# Altium integrated library Micron Memory Parallel NOR Flash.IntLib: 720 symbols (part 87 of 216)
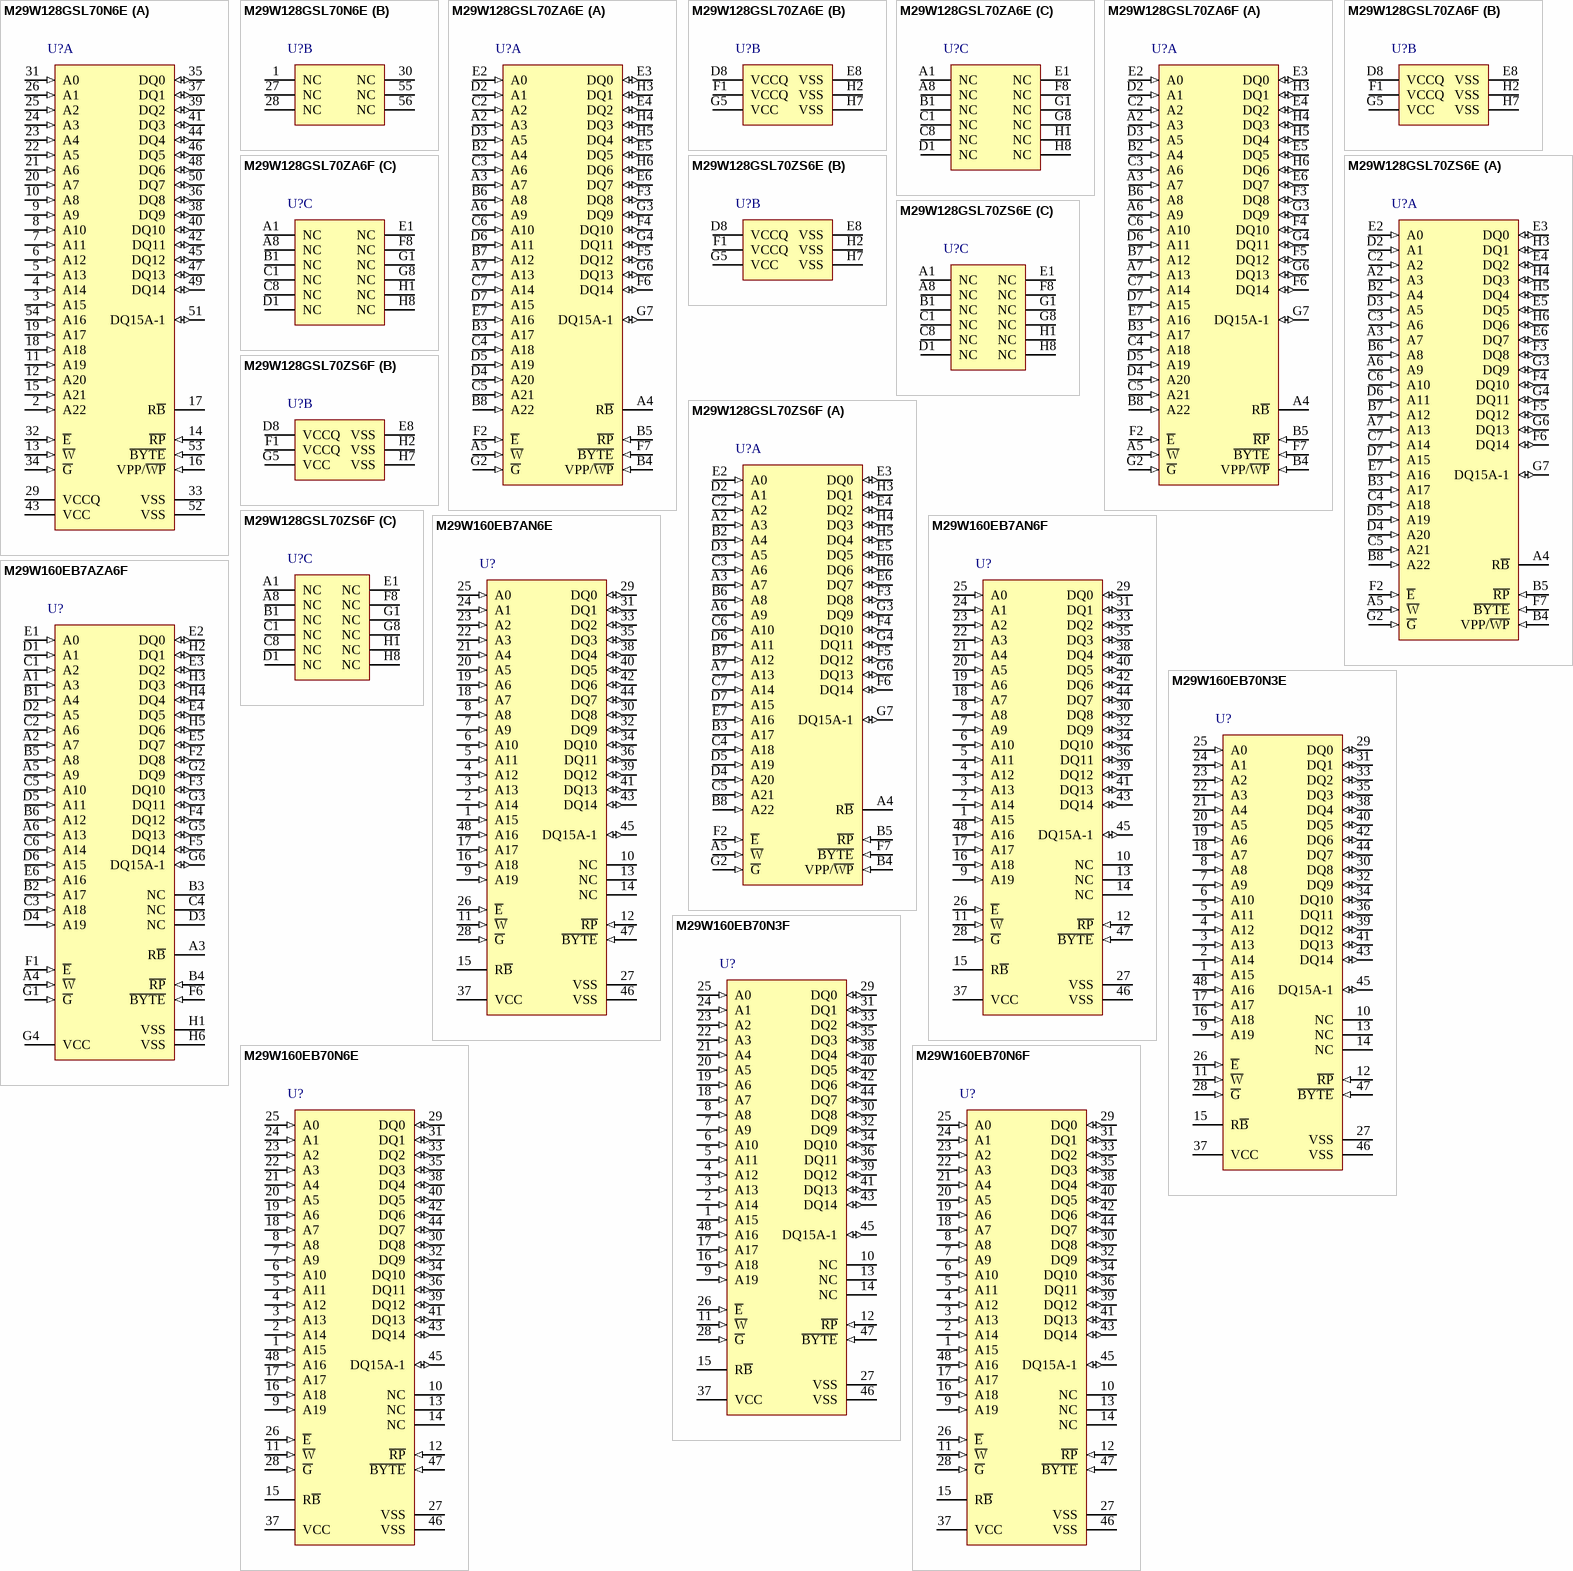
[diagram p130: symbols M29W128GSL70N6E to M29W160EB70N6F]

## M29W128GSL70ZS6E
designator U?
128 Mb (x8/x16) Parallel NOR Flash Memory, 70 ns, 2.7 to 3.6 V, 64-ball FBGA (ZS), Tray; Part Family: M29W; Manufacturer: Micron; PartNumber: M29W128GSL70ZS6E; Density: 128Mb; Op Temp: -40C to +85C; Speed: 70ns; Voltage: 2.7V-3.6V; DatasheetVersion: Rev. 11; PackageVersion: Rev. 11; PackageReference: MICT-ZS-64; PackageDescription: 64-Ball FBGA, 11 X 13 mm, Pitch 1 mm; RoHS: Yes; Width: x8/x16; Mounting Technology: Surface Mount; ComponentLink1Description: Manufacturer URL; ComponentLink1URL: http://www.micron.com/; ComponentLink2Description: Datasheet; ComponentLink2URL: http://www.micron.com/~/media/Documents/Products/Data%20Sheet/NOR%20Flash/Parallel/M29W/M29W128G.pdf; ComponentLink3Description: Package Specification; ComponentLink3URL: http://www.micron.com/~/media/Documents/Products/Data%20Sheet/NOR%20Flash/Parallel/P33/208034_P33_65nm_SBC_64M_128M_Discrete_DS.pdf
footprint MICT-ZS-64 (BGA, 64-Balls, Body 13x11mm, Pitch 1mm)
part A pins: A2 A3 (in) "Address input: The Address Input select the cells in the memory array to access during bus read operations. During bus write operations they control the commands sent to the command interface of the program/erase controller.", A3 A7 (in) "Address input: The Address Input select the cells in the memory array to access during bus read operations. During bus write operations they control the commands sent to the command interface of the program/erase controller.", A4 R~{B} (hiz) "Ready/busy output: The ready/busy pin is an open-drain output that can be used to identify when the device is performing a program or erase operation. During program or erase operations ready/busy is Low, VOL. Ready/busy is (See Datasheet)", A5 ~{W} (in) "Write enable: The write enable pin, W\, controls the bus write operation of the memory’s command interface.", A6 A9 (in) "Address input: The Address Input select the cells in the memory array to access during bus read operations. During bus write operations they control the commands sent to the command interface of the program/erase controller.", A7 A13 (in) "Address input: The Address Input select the cells in the memory array to access during bus read operations. During bus write operations they control the commands sent to the command interface of the program/erase controller.", B2 A4 (in) "Address input: The Address Input select the cells in the memory array to access during bus read operations. During bus write operations they control the commands sent to the command interface of the program/erase controller.", B3 A17 (in) "Address input: The Address Input select the cells in the memory array to access during bus read operations. During bus write operations they control the commands sent to the command interface of the program/erase controller.", B4 VPP/~{WP} (in) "VPP/write protect: The VPP/write protect pin provides two functions. The VPPH function allows the memory to use an external high voltage power supply to reduce the time required for program operations. This is achieved by (See Datasheet)", B5 ~{RP} (in) "Reset: The reset pin can be used to apply a hardware reset to the memory. A hardware reset is achieved by holding reset Low, VIL, for at least tPLPX. After reset goes High, VIH, the memory will be ready for bus read and bus (See Datasheet)", B6 A8 (in) "Address input: The Address Input select the cells in the memory array to access during bus read operations. During bus write operations they control the commands sent to the command interface of the program/erase controller.", B7 A12 (in) "Address input: The Address Input select the cells in the memory array to access during bus read operations. During bus write operations they control the commands sent to the command interface of the program/erase controller.", B8 A22 (in) "Address input: The Address Input select the cells in the memory array to access during bus read operations. During bus write operations they control the commands sent to the command interface of the program/erase controller.", C2 A2 (in) "Address input: The Address Input select the cells in the memory array to access during bus read operations. During bus write operations they control the commands sent to the command interface of the program/erase controller.", C3 A6 (in) "Address input: The Address Input select the cells in the memory array to access during bus read operations. During bus write operations they control the commands sent to the command interface of the program/erase controller.", C4 A18 (in) "Address input: The Address Input select the cells in the memory array to access during bus read operations. During bus write operations they control the commands sent to the command interface of the program/erase controller.", C5 A21 (in) "Address input: The Address Input select the cells in the memory array to access during bus read operations. During bus write operations they control the commands sent to the command interface of the program/erase controller.", C6 A10 (in) "Address input: The Address Input select the cells in the memory array to access during bus read operations. During bus write operations they control the commands sent to the command interface of the program/erase controller.", C7 A14 (in) "Address input: The Address Input select the cells in the memory array to access during bus read operations. During bus write operations they control the commands sent to the command interface of the program/erase controller.", D2 A1 (in) "Address Input: The Address Input select the cells in the memory array to access during bus read operations. During bus write operations they control the commands sent to the command interface of the program/erase controller.", D3 A5 (in) "Address input: The Address Input select the cells in the memory array to access during bus read operations. During bus write operations they control the commands sent to the command interface of the program/erase controller.", D4 A20 (in) "Address input: The Address Input select the cells in the memory array to access during bus read operations. During bus write operations they control the commands sent to the command interface of the program/erase controller.", D5 A19 (in) "Address input: The Address Input select the cells in the memory array to access during bus read operations. During bus write operations they control the commands sent to the command interface of the program/erase controller.", D6 A11 (in) "Address input: The Address Input select the cells in the memory array to access during bus read operations. During bus write operations they control the commands sent to the command interface of the program/erase controller.", D7 A15 (in) "Address input: The Address Input select the cells in the memory array to access during bus read operations. During bus write operations they control the commands sent to the command interface of the program/erase controller.", E2 A0 (in) "Address input: The Address Input select the cells in the memory array to access during bus read operations. During bus write operations they control the commands sent to the command interface of the program/erase controller.", E3 DQ0 (io) "Data input/output: The data I/O Output the data stored at the selected address during a bus read operation. During bus write operations they represent the commands sent to the command interface of the internal state machine.", E4 DQ2 (io) "Data input/output: The data I/O Output the data stored at the selected address during a bus read operation. During bus write operations they represent the commands sent to the command interface of the internal state machine.", E5 DQ5 (io) "Data input/output: The data I/O output the data stored at the selected address during a bus read operation. During bus write operations they represent the commands sent to the command interface of the internal state machine.", E6 DQ7 (io) "Data input/output: The data I/O output the data stored at the selected address during a bus read operation. During bus write operations they represent the commands sent to the command interface of the internal state machine.", E7 A16 (in) "Address input: The Address Input select the cells in the memory array to access during bus read operations. During bus write operations they control the commands sent to the command interface of the program/erase controller.", F2 ~{E} (in) "Chip enable: The chip enable pin, E\, activates the memory, allowing bus read and bus write operations to be performed. When chip enable is High, VIH, all other pins are ignored.", F3 DQ8 (io) "Data input/output: The data I/O output the data stored at the selected address during a bus read operation when B\Y\T\E\ is High, VIH. When B\Y\T\E\ is Low, VIL, these pins are not used and are high impedance. During bus (See Datasheet)", F4 DQ10 (io) "Data input/output: The data I/O output the data stored at the selected address during a bus read operation when B\Y\T\E\ is High, VIH. When B\Y\T\E\ is Low, VIL, these pins are not used and are high impedance. During bus (See Datasheet)", F5 DQ12 (io) "Data input/output: The data I/O output the data stored at the selected address during a bus read operation when B\Y\T\E\ is High, VIH. When B\Y\T\E\ is Low, VIL, these pins are not used and are high impedance. During bus (See Datasheet)", F6 DQ14 (io) "Data input/output: The data I/O output the data stored at the selected address during a bus read operation when B\Y\T\E\ is High, VIH. When B\Y\T\E\ is Low, VIL, these pins are not used and are high impedance. During bus (See Datasheet)", F7 ~{BYTE} (in) "B\y\t\e\/word organization select: It is used to switch between the x8 and x16 bus modes of the memory. When byte/word organization select is Low, VIL, the memory is in x8 mode, when it is High, VIH, the memory is in x16 (See Datasheet)", G2 ~{G} (in) "Output enable: The output enable pin, G\, controls the bus read operation of the memory.", G3 DQ9 (io) "Data input/output: The data I/O output the data stored at the selected address during a bus read operation when B\Y\T\E\ is High, VIH. When B\Y\T\E\ is Low, VIL, these pins are not used and are high impedance. During bus (See Datasheet)", G4 DQ11 (io) "Data input/output: The data I/O output the data stored at the selected address during a bus read operation when B\Y\T\E\ is High, VIH. When B\Y\T\E\ is Low, VIL, these pins are not used and are high impedance. During bus (See Datasheet)", G6 DQ13 (io) "Data input/output: The data I/O output the data stored at the selected address during a bus read operation when B\Y\T\E\ is High, VIH. When B\Y\T\E\ is Low, VIL, these pins are not used and are high impedance. During bus (See Datasheet)", G7 DQ15A-1 (io) "Data input/output or address input: When the device is in x 16 bus mode, this pin behaves as a data input/output pin (as DQ8- DQ14). When the device operates in x 8 bus mode, this pin behaves as the least significant bit of (See Datasheet)", H3 DQ1 (io) "Data input/output: The data I/O Output the data stored at the selected address during a bus read operation. During bus write operations they represent the commands sent to the command interface of the internal state machine.", H4 DQ3 (io) "Data input/output: The data I/O output the data stored at the selected address during a bus read operation. During bus write operations they represent the commands sent to the command interface of the internal state machine.", H5 DQ4 (io) "Data input/OUTPUT: The data I/O OUTPUT the data stored at the selected address during a bus read operation. During bus write operations they represent the commands sent to the command interface of the internal state machine.", H6 DQ6 (io) "Data input/output: The data I/O output the data stored at the selected address during a bus read operation. During bus write operations they represent the commands sent to the command interface of the internal state machine."
part B pins: D8 VCCQ (power) "VCCQ input/output supply voltage: VCCQ provides the power supply to the I/O pins and enables all outputs to be powered independently from VCC.", E8 VSS (power) "Vss ground: VSS is the reference for all voltage measurements. The device features two VSS pins both of which must be connected to the system ground.", F1 VCCQ (power) "VCCQ input/output supply voltage: VCCQ provides the power supply to the I/O pins and enables all outputs to be powered independently from VCC.", G5 VCC (power) "VCC supply voltage: VCC provides the power supply for all operations (read, program and erase). The command interface is disabled when the VCC supply voltage is less than the lockout voltage, VLKO. This prevents bus write (See Datasheet)", H2 VSS (power) "Vss ground: VSS is the reference for all voltage measurements. The device features two VSS pins both of which must be connected to the system ground.", H7 VSS (power) "Vss ground: VSS is the reference for all voltage measurements. The device features two VSS pins both of which must be connected to the system ground."
part C pins: A1 NC "Not connected.", A8 NC "Not connected.", B1 NC "Not connected.", C1 NC "Not connected.", C8 NC "Not connected.", D1 NC "Not connected.", E1 NC "Not connected.", F8 NC "Not connected.", G1 NC "Not connected.", G8 NC "Not connected.", H1 NC "Not connected.", H8 NC "Not connected."

## M29W128GSL70ZS6F
designator U?
128 Mb (x8/x16) Parallel NOR Flash Memory, 70 ns, 2.7 to 3.6 V, 64-ball FBGA (ZS), Tape & Reel; Part Family: M29W; Manufacturer: Micron; PartNumber: M29W128GSL70ZS6F; Density: 128Mb; Op Temp: -40C to +85C; Speed: 70ns; Voltage: 2.7V-3.6V; DatasheetVersion: Rev. 11; PackageVersion: Rev. 11; PackageReference: MICT-ZS-64; PackageDescription: 64-Ball FBGA, 11 X 13 mm, Pitch 1 mm; RoHS: Yes; Width: x8/x16; Mounting Technology: Surface Mount; ComponentLink1Description: Manufacturer URL; ComponentLink1URL: http://www.micron.com/; ComponentLink2Description: Datasheet; ComponentLink2URL: http://www.micron.com/~/media/Documents/Products/Data%20Sheet/NOR%20Flash/Parallel/M29W/M29W128G.pdf; ComponentLink3Description: Package Specification; ComponentLink3URL: http://www.micron.com/~/media/Documents/Products/Data%20Sheet/NOR%20Flash/Parallel/P33/208034_P33_65nm_SBC_64M_128M_Discrete_DS.pdf
footprint MICT-ZS-64 (BGA, 64-Balls, Body 13x11mm, Pitch 1mm)
part A pins: A2 A3 (in) "Address input: The Address Input select the cells in the memory array to access during bus read operations. During bus write operations they control the commands sent to the command interface of the program/erase controller.", A3 A7 (in) "Address input: The Address Input select the cells in the memory array to access during bus read operations. During bus write operations they control the commands sent to the command interface of the program/erase controller.", A4 R~{B} (hiz) "Ready/busy output: The ready/busy pin is an open-drain output that can be used to identify when the device is performing a program or erase operation. During program or erase operations ready/busy is Low, VOL. Ready/busy is (See Datasheet)", A5 ~{W} (in) "Write enable: The write enable pin, W\, controls the bus write operation of the memory’s command interface.", A6 A9 (in) "Address input: The Address Input select the cells in the memory array to access during bus read operations. During bus write operations they control the commands sent to the command interface of the program/erase controller.", A7 A13 (in) "Address input: The Address Input select the cells in the memory array to access during bus read operations. During bus write operations they control the commands sent to the command interface of the program/erase controller.", B2 A4 (in) "Address input: The Address Input select the cells in the memory array to access during bus read operations. During bus write operations they control the commands sent to the command interface of the program/erase controller.", B3 A17 (in) "Address input: The Address Input select the cells in the memory array to access during bus read operations. During bus write operations they control the commands sent to the command interface of the program/erase controller.", B4 VPP/~{WP} (in) "VPP/write protect: The VPP/write protect pin provides two functions. The VPPH function allows the memory to use an external high voltage power supply to reduce the time required for program operations. This is achieved by (See Datasheet)", B5 ~{RP} (in) "Reset: The reset pin can be used to apply a hardware reset to the memory. A hardware reset is achieved by holding reset Low, VIL, for at least tPLPX. After reset goes High, VIH, the memory will be ready for bus read and bus (See Datasheet)", B6 A8 (in) "Address input: The Address Input select the cells in the memory array to access during bus read operations. During bus write operations they control the commands sent to the command interface of the program/erase controller.", B7 A12 (in) "Address input: The Address Input select the cells in the memory array to access during bus read operations. During bus write operations they control the commands sent to the command interface of the program/erase controller.", B8 A22 (in) "Address input: The Address Input select the cells in the memory array to access during bus read operations. During bus write operations they control the commands sent to the command interface of the program/erase controller.", C2 A2 (in) "Address input: The Address Input select the cells in the memory array to access during bus read operations. During bus write operations they control the commands sent to the command interface of the program/erase controller.", C3 A6 (in) "Address input: The Address Input select the cells in the memory array to access during bus read operations. During bus write operations they control the commands sent to the command interface of the program/erase controller.", C4 A18 (in) "Address input: The Address Input select the cells in the memory array to access during bus read operations. During bus write operations they control the commands sent to the command interface of the program/erase controller.", C5 A21 (in) "Address input: The Address Input select the cells in the memory array to access during bus read operations. During bus write operations they control the commands sent to the command interface of the program/erase controller.", C6 A10 (in) "Address input: The Address Input select the cells in the memory array to access during bus read operations. During bus write operations they control the commands sent to the command interface of the program/erase controller.", C7 A14 (in) "Address input: The Address Input select the cells in the memory array to access during bus read operations. During bus write operations they control the commands sent to the command interface of the program/erase controller.", D2 A1 (in) "Address Input: The Address Input select the cells in the memory array to access during bus read operations. During bus write operations they control the commands sent to the command interface of the program/erase controller.", D3 A5 (in) "Address input: The Address Input select the cells in the memory array to access during bus read operations. During bus write operations they control the commands sent to the command interface of the program/erase controller.", D4 A20 (in) "Address input: The Address Input select the cells in the memory array to access during bus read operations. During bus write operations they control the commands sent to the command interface of the program/erase controller.", D5 A19 (in) "Address input: The Address Input select the cells in the memory array to access during bus read operations. During bus write operations they control the commands sent to the command interface of the program/erase controller.", D6 A11 (in) "Address input: The Address Input select the cells in the memory array to access during bus read operations. During bus write operations they control the commands sent to the command interface of the program/erase controller.", D7 A15 (in) "Address input: The Address Input select the cells in the memory array to access during bus read operations. During bus write operations they control the commands sent to the command interface of the program/erase controller.", E2 A0 (in) "Address input: The Address Input select the cells in the memory array to access during bus read operations. During bus write operations they control the commands sent to the command interface of the program/erase controller.", E3 DQ0 (io) "Data input/output: The data I/O Output the data stored at the selected address during a bus read operation. During bus write operations they represent the commands sent to the command interface of the internal state machine.", E4 DQ2 (io) "Data input/output: The data I/O Output the data stored at the selected address during a bus read operation. During bus write operations they represent the commands sent to the command interface of the internal state machine.", E5 DQ5 (io) "Data input/output: The data I/O output the data stored at the selected address during a bus read operation. During bus write operations they represent the commands sent to the command interface of the internal state machine.", E6 DQ7 (io) "Data input/output: The data I/O output the data stored at the selected address during a bus read operation. During bus write operations they represent the commands sent to the command interface of the internal state machine.", E7 A16 (in) "Address input: The Address Input select the cells in the memory array to access during bus read operations. During bus write operations they control the commands sent to the command interface of the program/erase controller.", F2 ~{E} (in) "Chip enable: The chip enable pin, E\, activates the memory, allowing bus read and bus write operations to be performed. When chip enable is High, VIH, all other pins are ignored.", F3 DQ8 (io) "Data input/output: The data I/O output the data stored at the selected address during a bus read operation when B\Y\T\E\ is High, VIH. When B\Y\T\E\ is Low, VIL, these pins are not used and are high impedance. During bus (See Datasheet)", F4 DQ10 (io) "Data input/output: The data I/O output the data stored at the selected address during a bus read operation when B\Y\T\E\ is High, VIH. When B\Y\T\E\ is Low, VIL, these pins are not used and are high impedance. During bus (See Datasheet)", F5 DQ12 (io) "Data input/output: The data I/O output the data stored at the selected address during a bus read operation when B\Y\T\E\ is High, VIH. When B\Y\T\E\ is Low, VIL, these pins are not used and are high impedance. During bus (See Datasheet)", F6 DQ14 (io) "Data input/output: The data I/O output the data stored at the selected address during a bus read operation when B\Y\T\E\ is High, VIH. When B\Y\T\E\ is Low, VIL, these pins are not used and are high impedance. During bus (See Datasheet)", F7 ~{BYTE} (in) "B\y\t\e\/word organization select: It is used to switch between the x8 and x16 bus modes of the memory. When byte/word organization select is Low, VIL, the memory is in x8 mode, when it is High, VIH, the memory is in x16 (See Datasheet)", G2 ~{G} (in) "Output enable: The output enable pin, G\, controls the bus read operation of the memory.", G3 DQ9 (io) "Data input/output: The data I/O output the data stored at the selected address during a bus read operation when B\Y\T\E\ is High, VIH. When B\Y\T\E\ is Low, VIL, these pins are not used and are high impedance. During bus (See Datasheet)", G4 DQ11 (io) "Data input/output: The data I/O output the data stored at the selected address during a bus read operation when B\Y\T\E\ is High, VIH. When B\Y\T\E\ is Low, VIL, these pins are not used and are high impedance. During bus (See Datasheet)", G6 DQ13 (io) "Data input/output: The data I/O output the data stored at the selected address during a bus read operation when B\Y\T\E\ is High, VIH. When B\Y\T\E\ is Low, VIL, these pins are not used and are high impedance. During bus (See Datasheet)", G7 DQ15A-1 (io) "Data input/output or address input: When the device is in x 16 bus mode, this pin behaves as a data input/output pin (as DQ8- DQ14). When the device operates in x 8 bus mode, this pin behaves as the least significant bit of (See Datasheet)", H3 DQ1 (io) "Data input/output: The data I/O Output the data stored at the selected address during a bus read operation. During bus write operations they represent the commands sent to the command interface of the internal state machine.", H4 DQ3 (io) "Data input/output: The data I/O output the data stored at the selected address during a bus read operation. During bus write operations they represent the commands sent to the command interface of the internal state machine.", H5 DQ4 (io) "Data input/OUTPUT: The data I/O OUTPUT the data stored at the selected address during a bus read operation. During bus write operations they represent the commands sent to the command interface of the internal state machine.", H6 DQ6 (io) "Data input/output: The data I/O output the data stored at the selected address during a bus read operation. During bus write operations they represent the commands sent to the command interface of the internal state machine."
part B pins: D8 VCCQ (power) "VCCQ input/output supply voltage: VCCQ provides the power supply to the I/O pins and enables all outputs to be powered independently from VCC.", E8 VSS (power) "Vss ground: VSS is the reference for all voltage measurements. The device features two VSS pins both of which must be connected to the system ground.", F1 VCCQ (power) "VCCQ input/output supply voltage: VCCQ provides the power supply to the I/O pins and enables all outputs to be powered independently from VCC.", G5 VCC (power) "VCC supply voltage: VCC provides the power supply for all operations (read, program and erase). The command interface is disabled when the VCC supply voltage is less than the lockout voltage, VLKO. This prevents bus write (See Datasheet)", H2 VSS (power) "Vss ground: VSS is the reference for all voltage measurements. The device features two VSS pins both of which must be connected to the system ground.", H7 VSS (power) "Vss ground: VSS is the reference for all voltage measurements. The device features two VSS pins both of which must be connected to the system ground."
part C pins: A1 NC "Not connected.", A8 NC "Not connected.", B1 NC "Not connected.", C1 NC "Not connected.", C8 NC "Not connected.", D1 NC "Not connected.", E1 NC "Not connected.", F8 NC "Not connected.", G1 NC "Not connected.", G8 NC "Not connected.", H1 NC "Not connected.", H8 NC "Not connected."

## M29W160EB7AN6E
designator U?
16 Mb (x8/x16) Automotive Parallel NOR Flash Memory, 70 ns, 2.7 to 3.6 V, 48-pin TSOP (N), Tray; Part Family: M29W; Manufacturer: Micron; PartNumber: M29W160EB7AN6E; Density: 16Mb; Op Temp: -40C to +85C; Speed: 70ns; Voltage: 2.7V-3.6V; DatasheetVersion: Rev. 9.0; PackageVersion: Rev 11; PackageReference: MICT-N-48; PackageDescription: 48-Pin TSOP, 18.4 X 12 mm, Pitch 0.5 mm; RoHS: Yes; Width: x8/x16; Mounting Technology: Surface Mount; ComponentLink1Description: Manufacturer URL; ComponentLink1URL: http://www.micron.com/; ComponentLink2Description: Datasheet; ComponentLink2URL: http://www.micron.com/~/media/Documents/Products/Data%20Sheet/NOR%20Flash/Parallel/P33/208034_P33_65nm_SBC_64M_128M_Discrete_DS.pdf; ComponentLink3Description: Package Specification; ComponentLink3URL: http://www.micron.com/~/media/Documents/Products/Data%20Sheet/NOR%20Flash/Parallel/P30/306666_P30_130nm_Discrete_DS.pdf
footprint MICT-N-48_N (SOP, 48-Leads, Body 12x18.4mm, Pitch 0.5mm, IPC Medium Density)
pins: 1 A15 (in) "The Address Input select the cells in the memory array to access during Bus Read  operations. During Bus Write operations they control the commands sent to the Command  Interface of the Program/Erase Controller.", 2 A14 (in) "The Address Input select the cells in the memory array to access during Bus Read  operations. During Bus Write operations they control the commands sent to the Command  Interface of the Program/Erase Controller.", 3 A13 (in) "The Address Input select the cells in the memory array to access during Bus Read  operations. During Bus Write operations they control the commands sent to the Command  Interface of the Program/Erase Controller.", 4 A12 (in) "The Address Input select the cells in the memory array to access during Bus Read  operations. During Bus Write operations they control the commands sent to the Command  Interface of the Program/Erase Controller.", 5 A11 (in) "The Address Input select the cells in the memory array to access during Bus Read  operations. During Bus Write operations they control the commands sent to the Command  Interface of the Program/Erase Controller.", 6 A10 (in) "The Address Input select the cells in the memory array to access during Bus Read  operations. During Bus Write operations they control the commands sent to the Command  Interface of the Program/Erase Controller.", 7 A9 (in) "The Address Input select the cells in the memory array to access during Bus Read  operations. During Bus Write operations they control the commands sent to the Command  Interface of the Program/Erase Controller.", 8 A8 (in) "The Address Input select the cells in the memory array to access during Bus Read  operations. During Bus Write operations they control the commands sent to the Command  Interface of the Program/Erase Controller.", 9 A19 (in) "The Address Input select the cells in the memory array to access during Bus Read  operations. During Bus Write operations they control the commands sent to the Command  Interface of the Program/Erase Controller.", 10 NC "Not connected internally", 11 ~{W} (in) "The Write Enable, W\, controls the Bus Write operation of the memory's Command Interface.", 12 ~{RP} (in) "The Reset/Block Temporary Unprotect pin can be used to apply a Hardware Reset to the  memory or to temporarily unprotect all Blocks that have been protected.A Hardware Reset is achieved by holding Reset/ Block Temporary (See Datasheet)", 13 NC "Not connected internally", 14 NC "Not connected internally", 15 R~{B} (hiz) "The Ready/Busy pin is an open-drain output that can be used to identify when the device is  performing a Program or Erase operation. During Program or Erase operations Ready/Busy  is Low, VOL . Ready/Busy is high-impedance (See Datasheet)", 16 A18 (in) "The Address Input select the cells in the memory array to access during Bus Read  operations. During Bus Write operations they control the commands sent to the Command  Interface of the Program/Erase Controller.", 17 A17 (in) "The Address Input select the cells in the memory array to access during Bus Read  operations. During Bus Write operations they control the commands sent to the Command  Interface of the Program/Erase Controller.", 18 A7 (in) "The Address Input select the cells in the memory array to access during Bus Read  operations. During Bus Write operations they control the commands sent to the Command  Interface of the Program/Erase Controller.", 19 A6 (in) "The Address Input select the cells in the memory array to access during Bus Read  operations. During Bus Write operations they control the commands sent to the Command  Interface of the Program/Erase Controller.", 20 A5 (in) "The Address Input select the cells in the memory array to access during Bus Read  operations. During Bus Write operations they control the commands sent to the Command  Interface of the Program/Erase Controller.", 21 A4 (in) "The Address Input select the cells in the memory array to access during Bus Read  operations. During Bus Write operations they control the commands sent to the Command  Interface of the Program/Erase Controller.", 22 A3 (in) "The Address Input select the cells in the memory array to access during Bus Read  operations. During Bus Write operations they control the commands sent to the Command  Interface of the Program/Erase Controller.", 23 A2 (in) "The Address Input select the cells in the memory array to access during Bus Read  operations. During Bus Write operations they control the commands sent to the Command  Interface of the Program/Erase Controller.", 24 A1 (in) "The Address Input select the cells in the memory array to access during Bus Read  operations. During Bus Write operations they control the commands sent to the Command  Interface of the Program/Erase Controller.", 25 A0 (in) "The Address Input select the cells in the memory array to access during Bus Read  operations. During Bus Write operations they control the commands sent to the Command  Interface of the Program/Erase Controller.", 26 ~{E} (in) "The Chip Enable, E\, activates the memory, allowing Bus Read and Bus Write operations to  be performed. When Chip Enable is High, VIH, all other pins are ignored.", 27 VSS (power) "The VSS Ground is the reference for all voltage measurements. The two VSS pins of the  device must be connected to the system ground.", 28 ~{G} (in) "The Output Enable, G\, controls the Bus Read operation of the memory.", 29 DQ0 (io) "The Data Input/Output output the data stored at the selected address during a Bus Read  operation. During Bus Write operations they represent the commands sent to the Command  Interface of the Program/Erase Controller.", 30 DQ8 (io) "The Data Input/Output output the data stored at the selected address during a Bus Read  operation when B\Y\T\E\ is High, VIH. When B\Y\T\E\ is Low, VIL , these pins are not used and are  high impedance. During Bus Write (See Datasheet)", 31 DQ1 (io) "The Data Input/Output output the data stored at the selected address during a Bus Read  operation. During Bus Write operations they represent the commands sent to the Command  Interface of the Program/Erase Controller.", 32 DQ9 (io) "The Data Input/Output output the data stored at the selected address during a Bus Read  operation when B\Y\T\E\ is High, VIH. When B\Y\T\E\ is Low, VIL , these pins are not used and are  high impedance. During Bus Write (See Datasheet)", 33 DQ2 (io) "The Data Input/Output output the data stored at the selected address during a Bus Read  operation. During Bus Write operations they represent the commands sent to the Command  Interface of the Program/Erase Controller.", 34 DQ10 (io) "The Data Input/Output output the data stored at the selected address during a Bus Read  operation when B\Y\T\E\ is High, VIH. When B\Y\T\E\ is Low, VIL , these pins are not used and are  high impedance. During Bus Write (See Datasheet)", 35 DQ3 (io) "The Data Input/Output output the data stored at the selected address during a Bus Read  operation. During Bus Write operations they represent the commands sent to the Command  Interface of the Program/Erase Controller.", 36 DQ11 (io) "The Data Input/Output output the data stored at the selected address during a Bus Read  operation when B\Y\T\E\ is High, VIH. When B\Y\T\E\ is Low, VIL , these pins are not used and are  high impedance. During Bus Write (See Datasheet)", 37 VCC (power) "The VCC Supply Voltage supplies the power for all operations (Read, Program, Erase etc.).", 38 DQ4 (io) "The Data Input/Output output the data stored at the selected address during a Bus Read  operation. During Bus Write operations they represent the commands sent to the Command  Interface of the Program/Erase Controller.", 39 DQ12 (io) "The Data Input/Output output the data stored at the selected address during a Bus Read  operation when B\Y\T\E\ is High, VIH. When B\Y\T\E\ is Low, VIL , these pins are not used and are  high impedance. During Bus Write (See Datasheet)", 40 DQ5 (io) "The Data Input/Output output the data stored at the selected address during a Bus Read  operation. During Bus Write operations they represent the commands sent to the Command  Interface of the Program/Erase Controller.", 41 DQ13 (io) "The Data Input/Output output the data stored at the selected address during a Bus Read  operation when B\Y\T\E\ is High, VIH. When B\Y\T\E\ is Low, VIL , these pins are not used and are  high impedance. During Bus Write (See Datasheet)", 42 DQ6 (io) "The Data Input/Output output the data stored at the selected address during a Bus Read  operation. During Bus Write operations they represent the commands sent to the Command  Interface of the Program/Erase Controller.", 43 DQ14 (io) "The Data Input/Output output the data stored at the selected address during a Bus Read  operation when B\Y\T\E\ is High, VIH. When B\Y\T\E\ is Low, VIL , these pins are not used and are  high impedance. During Bus Write (See Datasheet)", 44 DQ7 (io) "The Data Input/Output output the data stored at the selected address during a Bus Read  operation. During Bus Write operations they represent the commands sent to the Command  Interface of the Program/Erase Controller.", 45 DQ15A-1 (io) "When B\Y\T\E\ is High, VIH, this pin behaves as a Data Input/Output pin (as DQ8-DQ14).  When B\Y\T\E\ is Low, VIL , this pin behaves as an address pin; DQ15A-1 Low will select the  LSB of the Word on the other addresses, (See Datasheet)", 46 VSS (power) "The VSS Ground is the reference for all voltage measurements. The two VSS pins of the  device must be connected to the system ground.", 47 ~{BYTE} (in) "The Byte/Word Organization Select pin is used to switch between the 8-bit and 16-bit Bus  modes of the memory. When Byte/Word Organization Select is Low, VIL , the memory is in 8- bit mode, when it is High, VIH, the memory (See Datasheet)", 48 A16 (in) "The Address Input select the cells in the memory array to access during Bus Read  operations. During Bus Write operations they control the commands sent to the Command  Interface of the Program/Erase Controller."

## M29W160EB7AN6F
designator U?
16 Mb (x8/x16) Automotive Parallel NOR Flash Memory, 70 ns, 2.7 to 3.6 V, 48-pin TSOP (N), Tape & Reel; Part Family: M29W; Manufacturer: Micron; PartNumber: M29W160EB7AN6F; Density: 16Mb; Op Temp: -40C to +85C; Speed: 70ns; Voltage: 2.7V-3.6V; DatasheetVersion: Rev. 9.0; PackageVersion: Rev 11; PackageReference: MICT-N-48; PackageDescription: 48-Pin TSOP, 18.4 X 12 mm, Pitch 0.5 mm; RoHS: Yes; Width: x8/x16; Mounting Technology: Surface Mount; ComponentLink1Description: Manufacturer URL; ComponentLink1URL: http://www.micron.com/; ComponentLink2Description: Datasheet; ComponentLink2URL: http://www.micron.com/~/media/Documents/Products/Data%20Sheet/NOR%20Flash/Parallel/P33/208034_P33_65nm_SBC_64M_128M_Discrete_DS.pdf; ComponentLink3Description: Package Specification; ComponentLink3URL: http://www.micron.com/~/media/Documents/Products/Data%20Sheet/NOR%20Flash/Parallel/P30/306666_P30_130nm_Discrete_DS.pdf
footprint MICT-N-48_N (SOP, 48-Leads, Body 12x18.4mm, Pitch 0.5mm, IPC Medium Density)
pins: 1 A15 (in) "The Address Input select the cells in the memory array to access during Bus Read  operations. During Bus Write operations they control the commands sent to the Command  Interface of the Program/Erase Controller.", 2 A14 (in) "The Address Input select the cells in the memory array to access during Bus Read  operations. During Bus Write operations they control the commands sent to the Command  Interface of the Program/Erase Controller.", 3 A13 (in) "The Address Input select the cells in the memory array to access during Bus Read  operations. During Bus Write operations they control the commands sent to the Command  Interface of the Program/Erase Controller.", 4 A12 (in) "The Address Input select the cells in the memory array to access during Bus Read  operations. During Bus Write operations they control the commands sent to the Command  Interface of the Program/Erase Controller.", 5 A11 (in) "The Address Input select the cells in the memory array to access during Bus Read  operations. During Bus Write operations they control the commands sent to the Command  Interface of the Program/Erase Controller.", 6 A10 (in) "The Address Input select the cells in the memory array to access during Bus Read  operations. During Bus Write operations they control the commands sent to the Command  Interface of the Program/Erase Controller.", 7 A9 (in) "The Address Input select the cells in the memory array to access during Bus Read  operations. During Bus Write operations they control the commands sent to the Command  Interface of the Program/Erase Controller.", 8 A8 (in) "The Address Input select the cells in the memory array to access during Bus Read  operations. During Bus Write operations they control the commands sent to the Command  Interface of the Program/Erase Controller.", 9 A19 (in) "The Address Input select the cells in the memory array to access during Bus Read  operations. During Bus Write operations they control the commands sent to the Command  Interface of the Program/Erase Controller.", 10 NC "Not connected internally", 11 ~{W} (in) "The Write Enable, W\, controls the Bus Write operation of the memory's Command Interface.", 12 ~{RP} (in) "The Reset/Block Temporary Unprotect pin can be used to apply a Hardware Reset to the  memory or to temporarily unprotect all Blocks that have been protected.A Hardware Reset is achieved by holding Reset/ Block Temporary (See Datasheet)", 13 NC "Not connected internally", 14 NC "Not connected internally", 15 R~{B} (hiz) "The Ready/Busy pin is an open-drain output that can be used to identify when the device is  performing a Program or Erase operation. During Program or Erase operations Ready/Busy  is Low, VOL . Ready/Busy is high-impedance (See Datasheet)", 16 A18 (in) "The Address Input select the cells in the memory array to access during Bus Read  operations. During Bus Write operations they control the commands sent to the Command  Interface of the Program/Erase Controller.", 17 A17 (in) "The Address Input select the cells in the memory array to access during Bus Read  operations. During Bus Write operations they control the commands sent to the Command  Interface of the Program/Erase Controller.", 18 A7 (in) "The Address Input select the cells in the memory array to access during Bus Read  operations. During Bus Write operations they control the commands sent to the Command  Interface of the Program/Erase Controller.", 19 A6 (in) "The Address Input select the cells in the memory array to access during Bus Read  operations. During Bus Write operations they control the commands sent to the Command  Interface of the Program/Erase Controller.", 20 A5 (in) "The Address Input select the cells in the memory array to access during Bus Read  operations. During Bus Write operations they control the commands sent to the Command  Interface of the Program/Erase Controller.", 21 A4 (in) "The Address Input select the cells in the memory array to access during Bus Read  operations. During Bus Write operations they control the commands sent to the Command  Interface of the Program/Erase Controller.", 22 A3 (in) "The Address Input select the cells in the memory array to access during Bus Read  operations. During Bus Write operations they control the commands sent to the Command  Interface of the Program/Erase Controller.", 23 A2 (in) "The Address Input select the cells in the memory array to access during Bus Read  operations. During Bus Write operations they control the commands sent to the Command  Interface of the Program/Erase Controller.", 24 A1 (in) "The Address Input select the cells in the memory array to access during Bus Read  operations. During Bus Write operations they control the commands sent to the Command  Interface of the Program/Erase Controller.", 25 A0 (in) "The Address Input select the cells in the memory array to access during Bus Read  operations. During Bus Write operations they control the commands sent to the Command  Interface of the Program/Erase Controller.", 26 ~{E} (in) "The Chip Enable, E\, activates the memory, allowing Bus Read and Bus Write operations to  be performed. When Chip Enable is High, VIH, all other pins are ignored.", 27 VSS (power) "The VSS Ground is the reference for all voltage measurements. The two VSS pins of the  device must be connected to the system ground.", 28 ~{G} (in) "The Output Enable, G\, controls the Bus Read operation of the memory.", 29 DQ0 (io) "The Data Input/Output output the data stored at the selected address during a Bus Read  operation. During Bus Write operations they represent the commands sent to the Command  Interface of the Program/Erase Controller.", 30 DQ8 (io) "The Data Input/Output output the data stored at the selected address during a Bus Read  operation when B\Y\T\E\ is High, VIH. When B\Y\T\E\ is Low, VIL , these pins are not used and are  high impedance. During Bus Write (See Datasheet)", 31 DQ1 (io) "The Data Input/Output output the data stored at the selected address during a Bus Read  operation. During Bus Write operations they represent the commands sent to the Command  Interface of the Program/Erase Controller.", 32 DQ9 (io) "The Data Input/Output output the data stored at the selected address during a Bus Read  operation when B\Y\T\E\ is High, VIH. When B\Y\T\E\ is Low, VIL , these pins are not used and are  high impedance. During Bus Write (See Datasheet)", 33 DQ2 (io) "The Data Input/Output output the data stored at the selected address during a Bus Read  operation. During Bus Write operations they represent the commands sent to the Command  Interface of the Program/Erase Controller.", 34 DQ10 (io) "The Data Input/Output output the data stored at the selected address during a Bus Read  operation when B\Y\T\E\ is High, VIH. When B\Y\T\E\ is Low, VIL , these pins are not used and are  high impedance. During Bus Write (See Datasheet)", 35 DQ3 (io) "The Data Input/Output output the data stored at the selected address during a Bus Read  operation. During Bus Write operations they represent the commands sent to the Command  Interface of the Program/Erase Controller.", 36 DQ11 (io) "The Data Input/Output output the data stored at the selected address during a Bus Read  operation when B\Y\T\E\ is High, VIH. When B\Y\T\E\ is Low, VIL , these pins are not used and are  high impedance. During Bus Write (See Datasheet)", 37 VCC (power) "The VCC Supply Voltage supplies the power for all operations (Read, Program, Erase etc.).", 38 DQ4 (io) "The Data Input/Output output the data stored at the selected address during a Bus Read  operation. During Bus Write operations they represent the commands sent to the Command  Interface of the Program/Erase Controller.", 39 DQ12 (io) "The Data Input/Output output the data stored at the selected address during a Bus Read  operation when B\Y\T\E\ is High, VIH. When B\Y\T\E\ is Low, VIL , these pins are not used and are  high impedance. During Bus Write (See Datasheet)", 40 DQ5 (io) "The Data Input/Output output the data stored at the selected address during a Bus Read  operation. During Bus Write operations they represent the commands sent to the Command  Interface of the Program/Erase Controller.", 41 DQ13 (io) "The Data Input/Output output the data stored at the selected address during a Bus Read  operation when B\Y\T\E\ is High, VIH. When B\Y\T\E\ is Low, VIL , these pins are not used and are  high impedance. During Bus Write (See Datasheet)", 42 DQ6 (io) "The Data Input/Output output the data stored at the selected address during a Bus Read  operation. During Bus Write operations they represent the commands sent to the Command  Interface of the Program/Erase Controller.", 43 DQ14 (io) "The Data Input/Output output the data stored at the selected address during a Bus Read  operation when B\Y\T\E\ is High, VIH. When B\Y\T\E\ is Low, VIL , these pins are not used and are  high impedance. During Bus Write (See Datasheet)", 44 DQ7 (io) "The Data Input/Output output the data stored at the selected address during a Bus Read  operation. During Bus Write operations they represent the commands sent to the Command  Interface of the Program/Erase Controller.", 45 DQ15A-1 (io) "When B\Y\T\E\ is High, VIH, this pin behaves as a Data Input/Output pin (as DQ8-DQ14).  When B\Y\T\E\ is Low, VIL , this pin behaves as an address pin; DQ15A-1 Low will select the  LSB of the Word on the other addresses, (See Datasheet)", 46 VSS (power) "The VSS Ground is the reference for all voltage measurements. The two VSS pins of the  device must be connected to the system ground.", 47 ~{BYTE} (in) "The Byte/Word Organization Select pin is used to switch between the 8-bit and 16-bit Bus  modes of the memory. When Byte/Word Organization Select is Low, VIL , the memory is in 8- bit mode, when it is High, VIH, the memory (See Datasheet)", 48 A16 (in) "The Address Input select the cells in the memory array to access during Bus Read  operations. During Bus Write operations they control the commands sent to the Command  Interface of the Program/Erase Controller."